# Altium schematic symbol library EL-sense_Transistors_FET_MOSFET.PcbLib.SchLib: 6 symbols
Pins are listed as number, name and electrical type; pins without a type are passive.

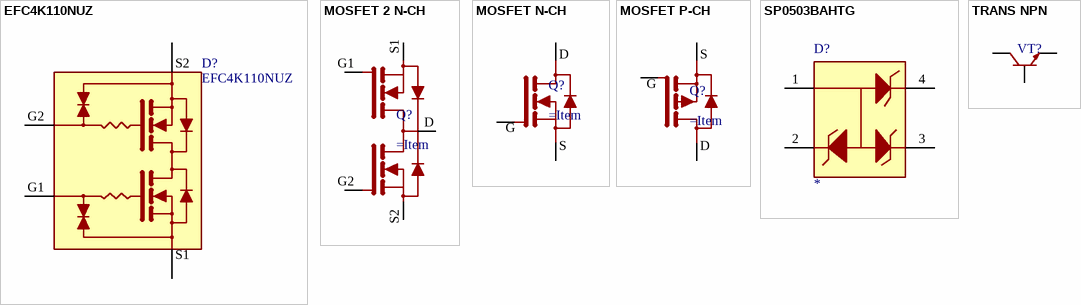
[diagram p0: symbols EFC4K110NUZ to TRANS NPN]

## EFC4K110NUZ
designator D?
Mosfet Array 2 N-Channel (Dual) / Common Drain 24V 25A 2.5W / Surface Mount 10-WLCSP (3.2x2.1); Manufacturer: ON Semiconductor; ComponentLink1Description: HelpURL; ComponentLink1URL: https://eu.mouser.com/datasheet/2/308/1/EFC4K110NUZ_D-2310913.pdf; Supplier 1: Digi-Key; Supplier Part Number 1: EFC4K110NUZTDGOSCT-ND; Case: 10-WLCSP; FET Type: 2 N-Channel (Dual) Common Drain
pins: G1, G2, S1, S2

## MOSFET 2 N-CH
designator Q?
pins: D, G1, G2, S1, S2

## MOSFET N-CH
designator Q?
pins: D, G, S

## MOSFET P-CH
designator Q?
pins: D, G, S

## SP0503BAHTG
designator D?
TVS Diode Array, 30 pF, 30 KV, -40 to 85 degC, 4-Pin SOT143, RoHS, Tape and Reel; Manufacturer: Littelfuse; Reverse Stand-off Voltage: 5.5(Min)V; Supplier 1: Digi-Key; Supplier Part Number 1: F2715CT-ND; Case: SOT-143
footprint SOT143
pins: 1, 2, 3, 4

## TRANS NPN
designator VT?
pins: 1 B, 2 E, 3 C